# Altium schematic symbol library 滑动开关.SchLib: 2 symbols
Pins are listed as number, name and electrical type; pins without a type are passive.

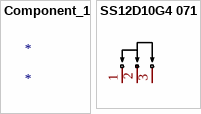
[diagram p0: symbols Component_1 to SS12D10G4 071]

## Component_1
designator *

## SS12D10G4 071
designator SW??  (value not drawn)
Manufacturer: SHOU HAN(首韩); Add into BOM: yes; Name: SS12D10G4 071; Symbol: SS12D10G4 071; Device: SS12D10G4 071; LCSC Part Name: SS12D10G4 071; Supplier Part: C2887259; Manufacturer Part: SS12D10G4 071; Supplier Footprint: 插件; JLCPCB Part Class: Extended Part; Datasheet: https://atta.szlcsc.com/upload/public/pdf/source/20210820/80D1704BBF3FCEE0435FCAA54C61E0A3.pdf; Supplier: LCSC; Convert to PCB: yes
footprint SW-TH_SHOU-HAN_SS12D10G4
3D model SW-TH_SHOU-HAN_SS12D10G4
pins: 1, 2, 3